# EAGLE library part TRANSFORMER_POE-5 (library !GPLIB_PASSIVE)
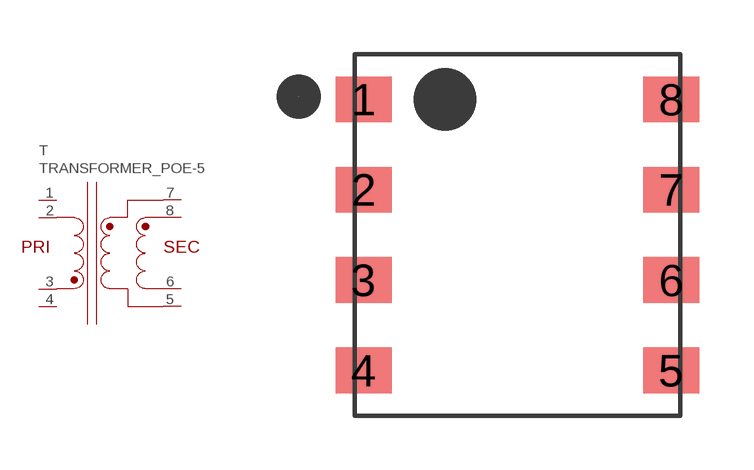
[diagram p3: symbol with the pads of TRANSFORMER_POE_08P_10X9.5X10.5MM; footprint TRANSFORMER_POE_08P_10X9.5X10.5MM]

Designator prefix T

## TRANSFORMER_POE-5_AC1584-AL  [TRANSFORMER_POE_08P_10X9.5X10.5MM]
1  1  pas
2  PRI-2  pas
3  PRI-1  pas
4  4  pas
5  SEC-1B  pas
6  SEC-2B  pas
7  SEC-1A  pas
8  SEC-2A  pas

## Footprint TRANSFORMER_POE_08P_10X9.5X10.5MM (pad centres in mm)
smd 1.55 x 1.27: 1 -4.25,3.75; 2 -4.25,1.25; 3 -4.25,-1.25; 4 -4.25,-3.75; 5 4.25,-3.75; 6 4.25,-1.25; 7 4.25,1.25; 8 4.25,3.75